# EAGLE library part MKL02Z32 (library Teensy-LC_v1.1)
Preliminary MKL02Z32 bootloader chip for Teensy LC processor (MKL26)
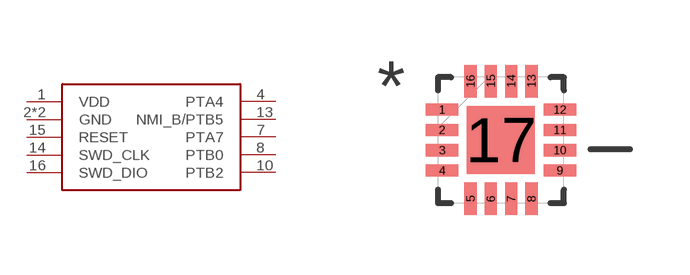
[diagram p1: symbol with the pads of QFN50P300X300X100-17N; footprint QFN50P300X300X100-17N]

Designator prefix -

## MKL02Z32  [QFN50P300X300X100-17N]
1  VDD
2  GND
4  PTA4
7  PTA7
8  PTB0
10  PTB2
13  NMI_B/PTB5
14  SWD_CLK
15  RESET
16  SWD_DIO
17  GND

## Footprint QFN50P300X300X100-17N (pad centres in mm)
smd 0.813 x 0.305: 1 -1.473,0.762; 2 -1.473,0.254; 3 -1.473,-0.254; 4 -1.473,-0.762; 9 1.473,-0.762; 10 1.473,-0.254; 11 1.473,0.254; 12 1.473,0.762
smd 0.305 x 0.813: 5 -0.762,-1.473; 6 -0.254,-1.473; 7 0.254,-1.473; 8 0.762,-1.473; 13 0.762,1.473; 14 0.254,1.473; 15 -0.254,1.473; 16 -0.762,1.473
smd 1.702 x 1.702: 17 0,0